# Altium schematic symbol library X 线路板空板.SCHLIB: 1 symbol
Pins are listed as number, name and electrical type; pins without a type are passive.

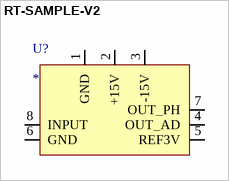
[diagram p0: symbol RT-SAMPLE-V2]

## RT-SAMPLE-V2
designator U?
pins: 1 GND, 2 +15V, 3 -15V, 4 OUT_AD, 5 REF3V, 6 GND, 7 OUT_PH, 8 INPUT